# EAGLE library part LT1058* (library linear-technology)
Quad JFET Input Precision High Speed Op Amps
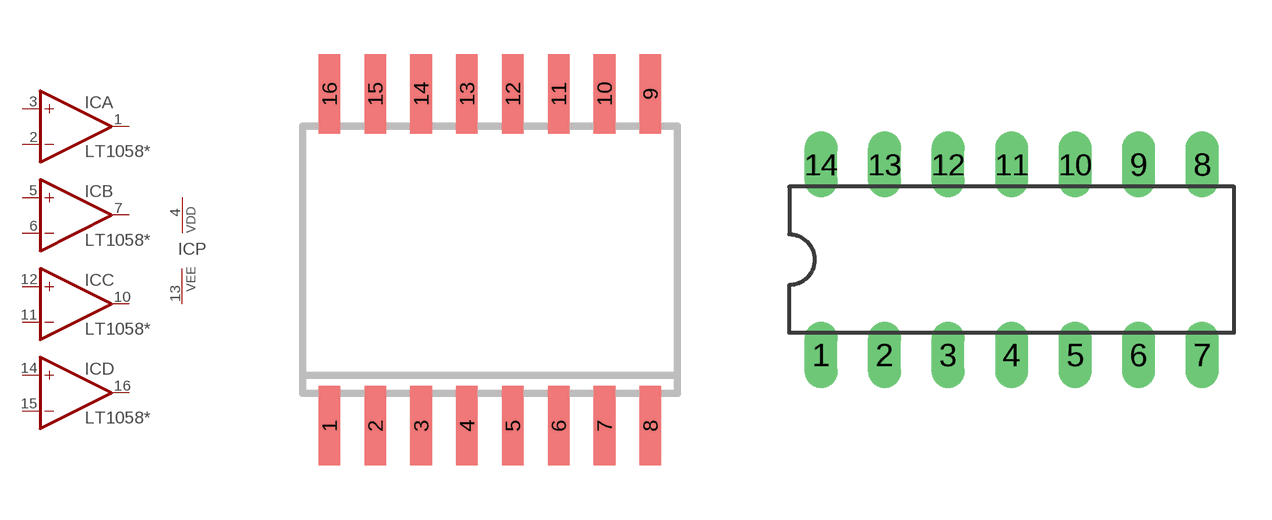
[diagram p22: symbol with the pads of SO16W; footprints SO16W, DIL14]

Designator prefix IC; gates A=OPAMP B=OPAMP C=OPAMP D=OPAMP P=PWRN-D-E

## LT1058SW, LT1058ISW  [SO16W]
1  A:OUT  out
2  A:-IN  in
3  A:+IN  in
4  P:VDD  pwr
5  B:+IN  in
6  B:-IN  in
7  B:OUT  out
10  C:OUT  out
11  C:-IN  in
12  C:+IN  in
13  P:VEE  pwr
14  D:+IN  in
15  D:-IN  in
16  D:OUT  out

## LT1058ACN, LT1058CN  [DIL14]
1  A:OUT  out
2  A:-IN  in
3  A:+IN  in
4  P:VDD  pwr
5  B:+IN  in
6  B:-IN  in
7  B:OUT  out
8  C:OUT  out
9  C:-IN  in
10  C:+IN  in
11  P:VEE  pwr
12  D:+IN  in
13  D:-IN  in
14  D:OUT  out

## Footprint SO16W (pad centres in mm)
smd 0.6 x 2.2: 1 -4.445,-4.6; 2 -3.175,-4.6; 3 -1.905,-4.6; 4 -0.635,-4.6; 5 0.635,-4.6; 6 1.905,-4.6; 7 3.175,-4.6; 8 4.445,-4.6; 9 4.445,4.6; 10 3.175,4.6; 11 1.905,4.6; 12 0.635,4.6; 13 -0.635,4.6; 14 -1.905,4.6; 15 -3.175,4.6; 16 -4.445,4.6

## Footprint DIL14 (pad centres in mm)
drill 0.813 long: 1 -7.62,-3.81; 2 -5.08,-3.81; 3 -2.54,-3.81; 4 0,-3.81; 5 2.54,-3.81; 6 5.08,-3.81; 7 7.62,-3.81; 8 7.62,3.81; 9 5.08,3.81; 10 2.54,3.81; 11 0,3.81; 12 -2.54,3.81; 13 -5.08,3.81; 14 -7.62,3.81